# Altium footprint library 封装.PcbLib: 31 footprints (part 1 of 2)
Each footprint in its own frame and in the unit in brackets; x right, y up, seen from the top. Pads: shape width x height; smd on the part's side, far side on the other; paste and mask are expansions set on the pad; w line width, h text height; cw(c..) or ccw(c..) is an arc to the next point about the centre after c.
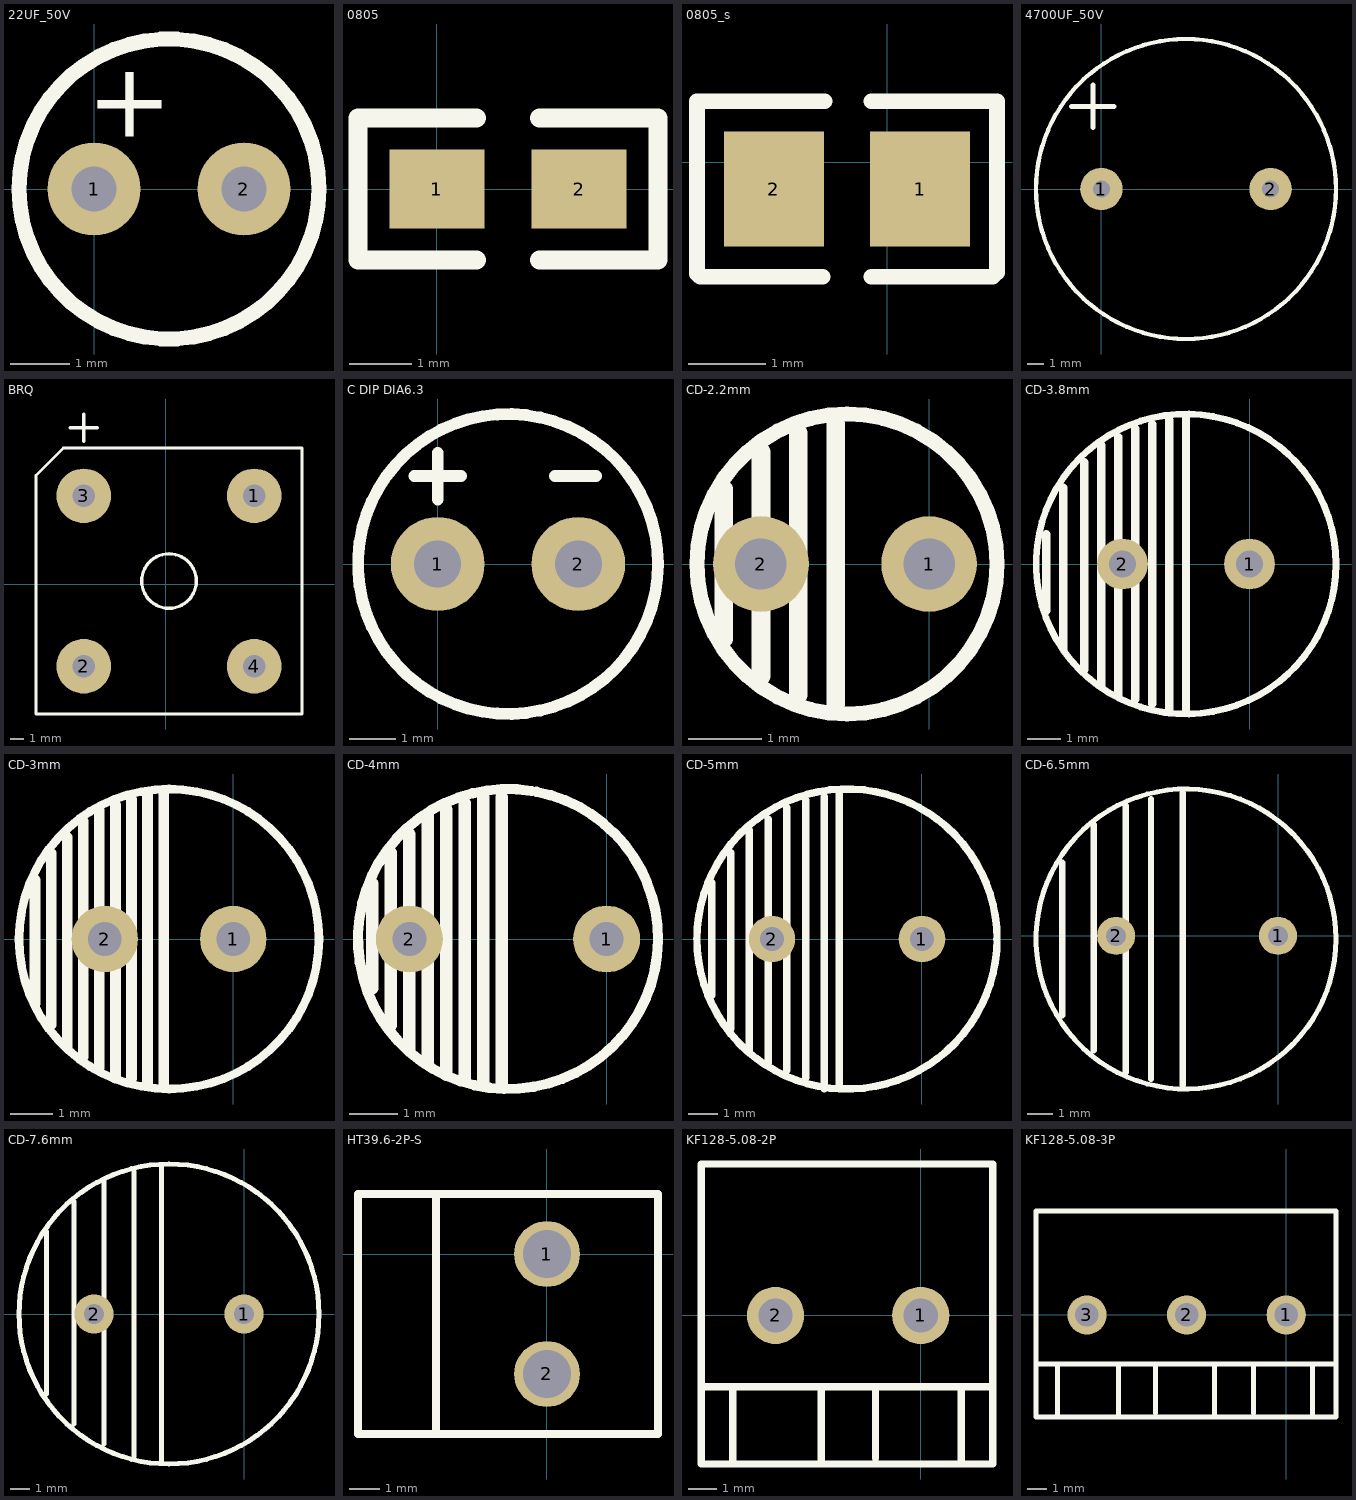
[diagram p0: the footprints below, top view; thin cyan lines are the x and y axes]

## 22UF_50V [mil]
pads (2):
  round 62 hole 30: 1(0,0) 2(100,0)
Top Overlay:
  circle w10: c50,0 r100
  text "+" at -5,35 h50
3D body "User Library-cap 5x11.STEP": height 433.07, standoff -748.03, extent -46.85,-100 150,96.85

## 0805 [mil]
pads (2):
  rect 60x50 smd: 1(0,0) 2(90,0)
Top Overlay:
  lines w12: 25,-45 -50,-45 -50,45 25,45 ; 65,-45 140,-45 140,45 65,45

## 0805_s [mm]
pads (2):
  rect 1.3x1.499 smd: 1(0.425,-0.35) 2(-1.475,-0.35)
Top Overlay:
  lines w0.203: -0.84,-1.493 -2.432,-1.493 -2.475,-1.45 -2.475,0.793 -0.818,0.793 ; -0.21,-1.493 1.368,-1.493 1.425,-1.436 1.425,0.793 -0.21,0.793

## 4700UF_50V [mil]
pads (2):
  round 100 hole 40: 1(0,0) 2(400,0)
Top Overlay:
  circle w10: c200,0 r354.33
  lines w12: -70,195 30,195 ; -20,145 -20,245
3D body "User Library-CE_R300_D720_H1600.STEP": height 1628.35, standoff -109.45, extent -159.84,-354.33 559.84,365.35

## BRQ [mil]
pads (4):
  round 160 hole 65: 1(260,260) 2(-240,-240) 3(-240,260) 4(260,-240)
Top Overlay:
  circle w10: c10.04,10.04 r80
  lines w8: -380,-380 -380,320 -300,400 400,400 400,-380 -380,-380
  lines w10: -280,460 -200,460 ; -240,420 -240,500

## C DIP DIA6.3 [mil]
pads (2):
  round 80 hole 40: 1(0,0) 2(120,0)
Top Overlay:
  circle w10: c60,0 r127.95
  lines w10: -20,75 20,75 ; 0,55 0,95 ; 100,75 135,75

## CD-2.2mm [mm]
pads (2):
  round 1.3 hole 0.7: 1(0,0) 2(-2.286,0)
Top Overlay:
  circle w0.203: c-1.116,0 r2.04
  lines w0.254: -2.794,-1.016 -2.794,1.016 ; -2.286,-1.524 -2.286,1.524 ; -1.778,-1.778 -1.778,1.778 ; -1.27,-1.905 -1.27,1.905

## CD-3.8mm [mil]
pads (2):
  round 60 hole 31.5: 1(0,0) 2(-150,0)
Top Overlay:
  circle w7.87: c-75,0 r177.16
  lines w10: -240,-55 -240,35 ; -220,-100 -220,90 ; -195,-125 -195,120 ; -175,-145 -175,140 ; -155,-155 -155,150 ; -135,-160 -135,160 ; -115,-165 -115,165 ; -95,-175 -95,170 ; -75,-175 -75,175

## CD-3mm [mil]
pads (2):
  round 62 hole 31.5: 1(0,0) 2(-120,0)
Top Overlay:
  circle w8: c-60,0 r140
  lines w10: -185,-60 -185,55 ; -170,-80 -170,80 ; -155,-100 -155,95 ; -140,-110 -140,110 ; -125,-120 -125,120 ; -110,-130 -110,125 ; -95,-130 -95,130 ; -80,-135 -80,135 ; -65,-135 -65,135

## CD-4mm [mm]
pads (2):
  round 1.38 hole 0.7: 1(0,0) 2(-4.064,0)
Top Overlay:
  lines w0.21: -1.549,3.052 ccw(c-2.032,0) -1.442,3.033
  lines w0.254: -4.826,-1.016 -4.826,1.143 ; -4.445,-1.778 -4.445,1.778 ; -4.064,-2.286 -4.064,2.159 ; -3.683,-2.54 -3.683,2.54 ; -3.302,-2.794 -3.302,2.667 ; -2.921,-2.921 -2.921,2.794 ; -2.54,-2.921 -2.54,2.921 ; -2.159,-3.048 -2.159,2.921

## CD-5mm [mil]
pads (2):
  round 62 hole 31.5: 1(0,0) 2(-200,0)
Top Overlay:
  circle w10: c-100,0 r200
  lines w10: -280,-75 -280,75 ; -255,-120 -255,115 ; -230,-150 -230,145 ; -205,-165 -205,160 ; -180,-175 -180,175 ; -155,-185 -155,185 ; -130,-200 -130,190 ; -110,-200 -110,195

## CD-6.5mm [mil]
pads (2):
  round 60 hole 31.5: 1(0,0) 2(-255,0)
Top Overlay:
  circle w7.87: c-145,-5 r236.22
  lines w10: -340,-125 -340,115 ; -290,-180 -290,175 ; -240,-215 -240,205 ; -200,-225 -200,215 ; -150,-235 -150,225

## CD-7.6mm [mm]
pads (2):
  round 2 hole 1: 1(0,0) 2(-7.62,0)
Top Overlay:
  circle w0.254: c-3.81,0 r7.62
  lines w0.254: -10.033,-4.064 -10.033,4.191 ; -8.636,-5.588 -8.636,5.715 ; -7.112,-6.604 -7.112,6.731 ; -5.588,-7.239 -5.588,7.239 ; -4.191,-7.493 -4.191,7.493

## HT39.6-2P-S [mm]
pads (2):
  round 2.2 hole 1.6: 1(0,0) 2(0,-4)
Top Overlay:
  lines w0.254: -3.7,-6 3.7,-6 3.7,2 -3.7,2 ; -3.7,-6 -3.7,2 ; -3.7,-6 -6.3,-6 -6.3,2 -3.7,2

## KF128-5.08-2P [mm]
pads (2):
  round 2 hole 1.2: 1(0,0) 2(-5.08,0)
Top Overlay:
  lines w0.254: -7.68,-2.5 2.52,-2.5 ; -6.58,-5.2 -6.58,-2.5 ; -3.48,-5.2 -3.48,-2.5 ; -1.58,-5 -1.58,-2.5 ; 1.42,-5.1 1.42,-2.5 ; -7.68,-5.2 2.52,-5.2 2.52,5.3 -7.68,5.3 -7.68,-5.2
3D body: height 5, standoff 0, extent -7.58,-5.1 2.42,5.2
3D body: height 14.1, standoff 5, extent -7.68,-2.5 2.42,5.2

## KF128-5.08-3P [mm]
pads (3):
  round 2 hole 1.2: 1(0,0) 2(-5.08,0) 3(-10.16,0)
Top Overlay:
  lines w0.254: -12.76,-2.5 2.54,-2.5 ; -11.66,-5.2 -11.66,-2.5 ; -8.56,-5.2 -8.56,-2.5 ; -6.66,-5 -6.66,-2.5 ; -3.66,-5.1 -3.66,-2.5 ; -1.66,-5 -1.66,-2.5 ; 1.34,-5.1 1.34,-2.5 ; -12.76,-5.2 2.54,-5.2 2.54,5.3 -12.76,5.3 -12.76,-5.2
3D body: height 5, standoff 0, extent -12.66,-5.1 2.34,5.2
3D body: height 14.1, standoff 5, extent -12.66,-2.4 2.34,5.2